# EAGLE library part OP484 (library IDP_library)
Quad Opamp - OP484
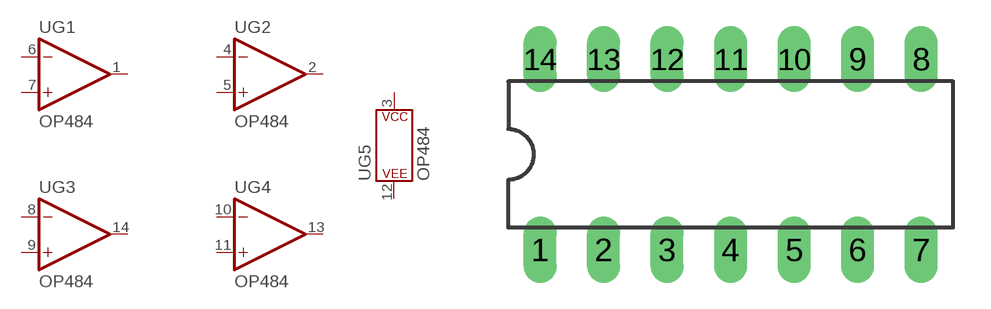
[diagram p29: symbol with the pads of DIL14; footprint DIL14]

Designator prefix U; gates G1=OP-AMP-2 G2=OP-AMP-2 G3=OP-AMP-2 G4=OP-AMP-2 G5=POWER_CONSORT-2

## OP484DIP  [DIL14]
1  G1:OUT  out
2  G2:OUT  out
3  G5:P$V+
4  G2:-IN  in
5  G2:+IN  in
6  G1:-IN  in
7  G1:+IN  in
8  G3:-IN  in
9  G3:+IN  in
10  G4:-IN  in
11  G4:+IN  in
12  G5:P$V-
13  G4:OUT  out
14  G3:OUT  out

## Footprint DIL14 (pad centres in mm)
Dual In Line Package
drill 0.813 long: 1 -7.62,-3.81; 2 -5.08,-3.81; 3 -2.54,-3.81; 4 0,-3.81; 5 2.54,-3.81; 6 5.08,-3.81; 7 7.62,-3.81; 8 7.62,3.81; 9 5.08,3.81; 10 2.54,3.81; 11 0,3.81; 12 -2.54,3.81; 13 -5.08,3.81; 14 -7.62,3.81